# Altium schematic symbol library ADS1220.Schlib: 1 symbol
Pins are listed as number, name and electrical type; pins without a type are passive.

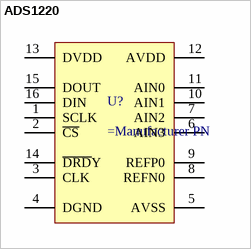
[diagram p0: symbol ADS1220]

## ADS1220
designator U?
24-bit ADC
pins: 1 SCLK, 2 ~{CS}, 3 CLK, 4 DGND, 5 AVSS, 6 AIN3, 7 AIN2, 8 REFN0, 9 REFP0, 10 AIN1, 11 AIN0, 12 AVDD, 13 DVDD, 14 ~{DRD}Y, 15 DOUT, 16 DIN